# Altium schematic symbol library SJR-BTM525.SchLib: 1 symbol
Pins are listed as number, name and electrical type; pins without a type are passive.

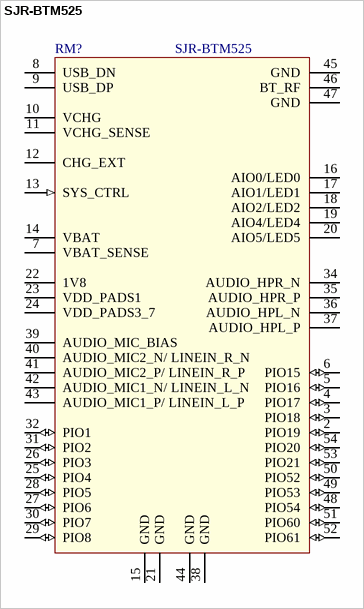
[diagram p0: symbol SJR-BTM525]

## SJR-BTM525
designator RM?
Bluetooth 5.1 modules SJR-BTM525; value: CC2564MODN
footprint SJR-BTM525
pins: 2 PIO19 (io), 3 PIO18 (io), 4 PIO17 (io), 5 PIO16 (io), 6 PIO15 (io), 7 VBAT_SENSE, 8 USB_DN, 9 USB_DP, 10 VCHG (power), 11 VCHG_SENSE, 12 CHG_EXT, 13 SYS_CTRL (in), 14 VBAT (power), 15 GND (power), 16 AIO0/LED0, 17 AIO1/LED1, 18 AIO2/LED2, 19 AIO4/LED4, 20 AIO5/LED5, 21 GND (power), 22 1V8 (power), 23 VDD_PADS1 (power), 24 VDD_PADS3_7 (power), 25 PIO4 (io), 26 PIO3 (io), 27 PIO6 (io), 28 PIO5 (io), 29 PIO8 (io), 30 PIO7 (io), 31 PIO2 (io), 32 PIO1 (io), 34 AUDIO_HPR_N, 35 AUDIO_HPR_P, 36 AUDIO_HPL_N, 37 AUDIO_HPL_P, 38 GND (power), 39 AUDIO_MIC_BIAS, 40 AUDIO_MIC2_N/ LINEIN_R_N, 41 AUDIO_MIC2_P/ LINEIN_R_P, 42 AUDIO_MIC1_N/ LINEIN_L_N, 43 AUDIO_MIC1_P/ LINEIN_L_P, 44 GND (power), 45 GND (power), 46 BT_RF, 47 GND (power), 48 PIO54 (io), 49 PIO53 (io), 50 PIO52 (io), 51 PIO60 (io), 52 PIO61 (io), 53 PIO21 (io), 54 PIO20 (io)